# Altium footprint library Package_SO.PcbLib: 393 footprints (part 23 of 25)
Each footprint in its own frame and in the unit in brackets; x right, y up, seen from the top. Pads: shape width x height; smd on the part's side, far side on the other; paste and mask are expansions set on the pad; w line width, h text height; cw(c..) or ccw(c..) is an arc to the next point about the centre after c.
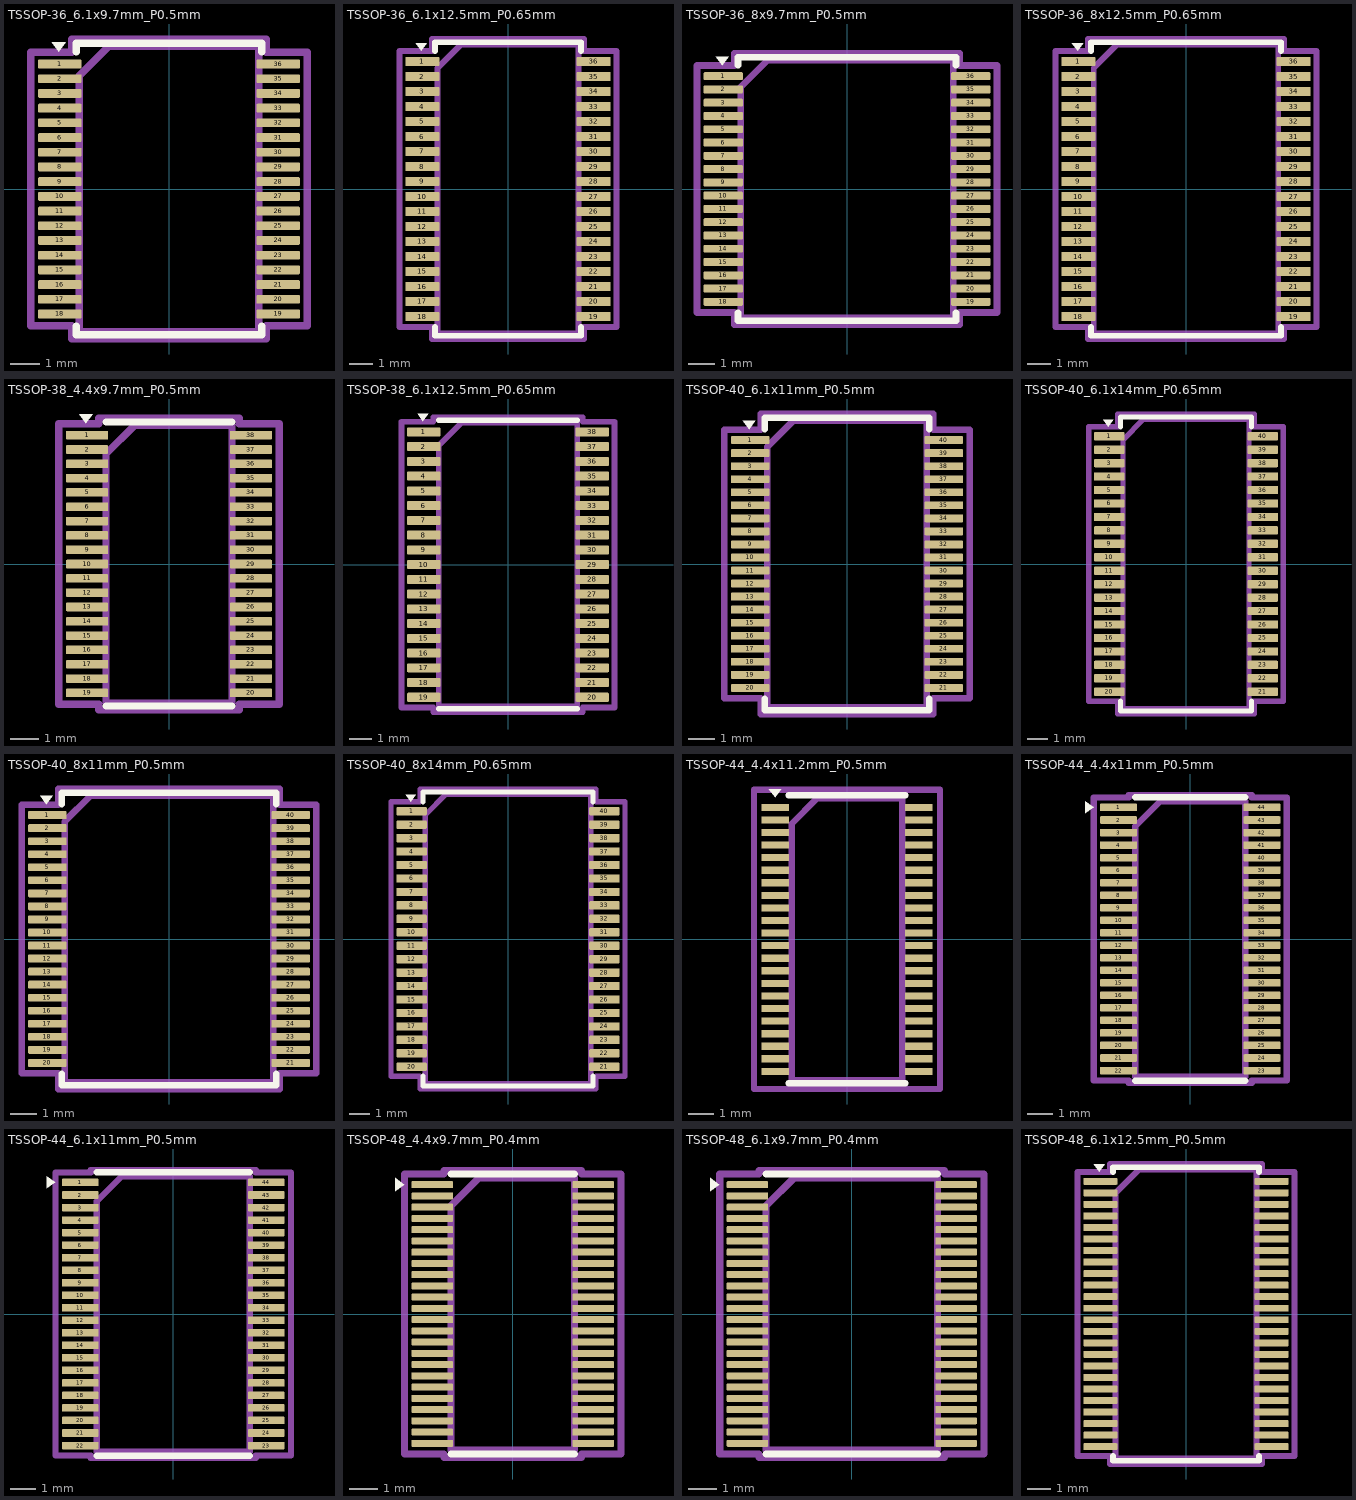
[diagram p22: the footprints below, top view; thin cyan lines are the x and y axes]

## TSSOP-36_6.1x9.7mm_P0.5mm [mm]
pads (36):
  rrect25% 1.475x0.3 smd: 1(-3.712,4.25) 2(-3.712,3.75) 3(-3.712,3.25) 4(-3.712,2.75) 5(-3.712,2.25) 6(-3.712,1.75) 7(-3.712,1.25) 8(-3.712,0.75) 9(-3.712,0.25) 10(-3.712,-0.25) 11(-3.712,-0.75) 12(-3.712,-1.25) 13(-3.712,-1.75) 14(-3.712,-2.25) 15(-3.712,-2.75) 16(-3.712,-3.25) 17(-3.712,-3.75) 18(-3.712,-4.25) 19(3.712,-4.25) 20(3.712,-3.75) 21(3.712,-3.25) 22(3.712,-2.75) 23(3.712,-2.25) 24(3.712,-1.75) 25(3.712,-1.25) 26(3.712,-0.75) 27(3.712,-0.25) 28(3.712,0.25) 29(3.712,0.75) 30(3.712,1.25) 31(3.712,1.75) 32(3.712,2.25) 33(3.712,2.75) 34(3.712,3.25) 35(3.712,3.75) 36(3.712,4.25)
F.SilkS:
  region: -3.75,4.66 -3.99,4.99 -3.51,4.99
  lines w0.254: -3.16,-4.66 -3.16,-4.96 0,-4.96 3.16,-4.96 3.16,-4.66 ; -3.16,4.66 -3.16,4.96 0,4.96 3.16,4.96 3.16,4.66
Top Assembly:
  lines w0.254: -3.05,-4.85 3.05,-4.85 3.05,4.85 -2.05,4.85 -3.05,3.85 -3.05,-4.85
  text "'.Designator'" at -4.047,-0.84 h1
Top Courtyard:
  lines w0.254: -4.7,-4.65 -3.3,-4.65 -3.3,-5.1 3.3,-5.1 3.3,-4.65 4.7,-4.65 4.7,4.65 3.3,4.65 3.3,5.1 -3.3,5.1 -3.3,4.65 -4.7,4.65 -4.7,-4.65
Top Designator:
  text ".Designator" at -7.618,-0.508 h1.52

## TSSOP-36_6.1x12.5mm_P0.65mm [mm]
pads (36):
  rrect25% 1.475x0.4 smd: 1(-3.712,5.525) 2(-3.712,4.875) 3(-3.712,4.225) 4(-3.712,3.575) 5(-3.712,2.925) 6(-3.712,2.275) 7(-3.712,1.625) 8(-3.712,0.975) 9(-3.712,0.325) 10(-3.712,-0.325) 11(-3.712,-0.975) 12(-3.712,-1.625) 13(-3.712,-2.275) 14(-3.712,-2.925) 15(-3.712,-3.575) 16(-3.712,-4.225) 17(-3.712,-4.875) 18(-3.712,-5.525) 19(3.712,-5.525) 20(3.712,-4.875) 21(3.712,-4.225) 22(3.712,-3.575) 23(3.712,-2.925) 24(3.712,-2.275) 25(3.712,-1.625) 26(3.712,-0.975) 27(3.712,-0.325) 28(3.712,0.325) 29(3.712,0.975) 30(3.712,1.625) 31(3.712,2.275) 32(3.712,2.925) 33(3.712,3.575) 34(3.712,4.225) 35(3.712,4.875) 36(3.712,5.525)
F.SilkS:
  region: -3.75,5.985 -3.99,6.315 -3.51,6.315
  lines w0.254: -3.16,-5.985 -3.16,-6.36 0,-6.36 3.16,-6.36 3.16,-5.985 ; -3.16,5.985 -3.16,6.36 0,6.36 3.16,6.36 3.16,5.985
Top Assembly:
  lines w0.254: -3.05,-6.25 3.05,-6.25 3.05,6.25 -2.05,6.25 -3.05,5.25 -3.05,-6.25
  text "'.Designator'" at -4.047,-0.84 h1
Top Courtyard:
  lines w0.254: -4.7,-5.98 -3.3,-5.98 -3.3,-6.5 3.3,-6.5 3.3,-5.98 4.7,-5.98 4.7,5.98 3.3,5.98 3.3,6.5 -3.3,6.5 -3.3,5.98 -4.7,5.98 -4.7,-5.98
Top Designator:
  text ".Designator" at -7.618,-0.508 h1.52

## TSSOP-36_8x9.7mm_P0.5mm [mm]
pads (36):
  rrect25% 1.475x0.3 smd: 1(-4.663,4.25) 2(-4.663,3.75) 3(-4.663,3.25) 4(-4.663,2.75) 5(-4.663,2.25) 6(-4.663,1.75) 7(-4.663,1.25) 8(-4.663,0.75) 9(-4.663,0.25) 10(-4.663,-0.25) 11(-4.663,-0.75) 12(-4.663,-1.25) 13(-4.663,-1.75) 14(-4.663,-2.25) 15(-4.663,-2.75) 16(-4.663,-3.25) 17(-4.663,-3.75) 18(-4.663,-4.25) 19(4.663,-4.25) 20(4.663,-3.75) 21(4.663,-3.25) 22(4.663,-2.75) 23(4.663,-2.25) 24(4.663,-1.75) 25(4.663,-1.25) 26(4.663,-0.75) 27(4.663,-0.25) 28(4.663,0.25) 29(4.663,0.75) 30(4.663,1.25) 31(4.663,1.75) 32(4.663,2.25) 33(4.663,2.75) 34(4.663,3.25) 35(4.663,3.75) 36(4.663,4.25)
F.SilkS:
  region: -4.7,4.66 -4.94,4.99 -4.46,4.99
  lines w0.254: -4.11,-4.66 -4.11,-4.96 0,-4.96 4.11,-4.96 4.11,-4.66 ; -4.11,4.66 -4.11,4.96 0,4.96 4.11,4.96 4.11,4.66
Top Assembly:
  lines w0.254: -4,-4.85 4,-4.85 4,4.85 -3,4.85 -4,3.85 -4,-4.85
  text "'.Designator'" at -4.047,-0.84 h1
Top Courtyard:
  lines w0.254: -5.65,-4.65 -4.25,-4.65 -4.25,-5.1 4.25,-5.1 4.25,-4.65 5.65,-4.65 5.65,4.65 4.25,4.65 4.25,5.1 -4.25,5.1 -4.25,4.65 -5.65,4.65 -5.65,-4.65
Top Designator:
  text ".Designator" at -7.618,-0.508 h1.52

## TSSOP-36_8x12.5mm_P0.65mm [mm]
pads (36):
  rrect25% 1.475x0.4 smd: 1(-4.663,5.525) 2(-4.663,4.875) 3(-4.663,4.225) 4(-4.663,3.575) 5(-4.663,2.925) 6(-4.663,2.275) 7(-4.663,1.625) 8(-4.663,0.975) 9(-4.663,0.325) 10(-4.663,-0.325) 11(-4.663,-0.975) 12(-4.663,-1.625) 13(-4.663,-2.275) 14(-4.663,-2.925) 15(-4.663,-3.575) 16(-4.663,-4.225) 17(-4.663,-4.875) 18(-4.663,-5.525) 19(4.663,-5.525) 20(4.663,-4.875) 21(4.663,-4.225) 22(4.663,-3.575) 23(4.663,-2.925) 24(4.663,-2.275) 25(4.663,-1.625) 26(4.663,-0.975) 27(4.663,-0.325) 28(4.663,0.325) 29(4.663,0.975) 30(4.663,1.625) 31(4.663,2.275) 32(4.663,2.925) 33(4.663,3.575) 34(4.663,4.225) 35(4.663,4.875) 36(4.663,5.525)
F.SilkS:
  region: -4.7,5.985 -4.94,6.315 -4.46,6.315
  lines w0.254: -4.11,-5.985 -4.11,-6.36 0,-6.36 4.11,-6.36 4.11,-5.985 ; -4.11,5.985 -4.11,6.36 0,6.36 4.11,6.36 4.11,5.985
Top Assembly:
  lines w0.254: -4,-6.25 4,-6.25 4,6.25 -3,6.25 -4,5.25 -4,-6.25
  text "'.Designator'" at -4.047,-0.84 h1
Top Courtyard:
  lines w0.254: -5.65,-5.98 -4.25,-5.98 -4.25,-6.5 4.25,-6.5 4.25,-5.98 5.65,-5.98 5.65,5.98 4.25,5.98 4.25,6.5 -4.25,6.5 -4.25,5.98 -5.65,5.98 -5.65,-5.98
Top Designator:
  text ".Designator" at -7.618,-0.508 h1.52

## TSSOP-38_4.4x9.7mm_P0.5mm [mm]
pads (38):
  rrect25% 1.475x0.3 smd: 1(-2.863,4.5) 2(-2.863,4) 3(-2.863,3.5) 4(-2.863,3) 5(-2.863,2.5) 6(-2.863,2) 7(-2.863,1.5) 8(-2.863,1) 9(-2.863,0.5) 10(-2.863,0) 11(-2.863,-0.5) 12(-2.863,-1) 13(-2.863,-1.5) 14(-2.863,-2) 15(-2.863,-2.5) 16(-2.863,-3) 17(-2.863,-3.5) 18(-2.863,-4) 19(-2.863,-4.5) 20(2.863,-4.5) 21(2.863,-4) 22(2.863,-3.5) 23(2.863,-3) 24(2.863,-2.5) 25(2.863,-2) 26(2.863,-1.5) 27(2.863,-1) 28(2.863,-0.5) 29(2.863,0) 30(2.863,0.5) 31(2.863,1) 32(2.863,1.5) 33(2.863,2) 34(2.863,2.5) 35(2.863,3) 36(2.863,3.5) 37(2.863,4) 38(2.863,4.5)
F.SilkS:
  region: -2.9,4.91 -3.14,5.24 -2.66,5.24
  lines w0.254: -2.2,-4.96 0,-4.96 2.2,-4.96 ; -2.2,4.96 0,4.96 2.2,4.96
Top Assembly:
  lines w0.254: -2.2,-4.85 2.2,-4.85 2.2,4.85 -1.2,4.85 -2.2,3.85 -2.2,-4.85
  text "'.Designator'" at -4.047,-0.84 h1
Top Courtyard:
  lines w0.254: -3.85,-4.9 -2.45,-4.9 -2.45,-5.1 2.45,-5.1 2.45,-4.9 3.85,-4.9 3.85,4.9 2.45,4.9 2.45,5.1 -2.45,5.1 -2.45,4.9 -3.85,4.9 -3.85,-4.9
Top Designator:
  text ".Designator" at -7.727,-0.501 h1.52

## TSSOP-38_6.1x12.5mm_P0.65mm [mm]
pads (38):
  rrect25% 1.475x0.4 smd: 1(-3.712,5.85) 2(-3.712,5.2) 3(-3.712,4.55) 4(-3.712,3.9) 5(-3.712,3.25) 6(-3.712,2.6) 7(-3.712,1.95) 8(-3.712,1.3) 9(-3.712,0.65) 10(-3.712,0) 11(-3.712,-0.65) 12(-3.712,-1.3) 13(-3.712,-1.95) 14(-3.712,-2.6) 15(-3.712,-3.25) 16(-3.712,-3.9) 17(-3.712,-4.55) 18(-3.712,-5.2) 19(-3.712,-5.85) 20(3.712,-5.85) 21(3.712,-5.2) 22(3.712,-4.55) 23(3.712,-3.9) 24(3.712,-3.25) 25(3.712,-2.6) 26(3.712,-1.95) 27(3.712,-1.3) 28(3.712,-0.65) 29(3.712,0) 30(3.712,0.65) 31(3.712,1.3) 32(3.712,1.95) 33(3.712,2.6) 34(3.712,3.25) 35(3.712,3.9) 36(3.712,4.55) 37(3.712,5.2) 38(3.712,5.85)
F.SilkS:
  region: -3.75,6.31 -3.99,6.64 -3.51,6.64
  lines w0.254: -3.05,-6.36 0,-6.36 3.05,-6.36 ; -3.05,6.36 0,6.36 3.05,6.36
Top Assembly:
  lines w0.254: -3.05,-6.25 3.05,-6.25 3.05,6.25 -2.05,6.25 -3.05,5.25 -3.05,-6.25
  text "'.Designator'" at -4.047,-0.84 h1
Top Courtyard:
  lines w0.254: -4.7,-6.3 -3.3,-6.3 -3.3,-6.5 3.3,-6.5 3.3,-6.3 4.7,-6.3 4.7,6.3 3.3,6.3 3.3,6.5 -3.3,6.5 -3.3,6.3 -4.7,6.3 -4.7,-6.3
Top Designator:
  text ".Designator" at -7.618,-0.501 h1.52

## TSSOP-40_6.1x11mm_P0.5mm [mm]
pads (40):
  rrect25% 1.475x0.3 smd: 1(-3.712,4.75) 2(-3.712,4.25) 3(-3.712,3.75) 4(-3.712,3.25) 5(-3.712,2.75) 6(-3.712,2.25) 7(-3.712,1.75) 8(-3.712,1.25) 9(-3.712,0.75) 10(-3.712,0.25) 11(-3.712,-0.25) 12(-3.712,-0.75) 13(-3.712,-1.25) 14(-3.712,-1.75) 15(-3.712,-2.25) 16(-3.712,-2.75) 17(-3.712,-3.25) 18(-3.712,-3.75) 19(-3.712,-4.25) 20(-3.712,-4.75) 21(3.712,-4.75) 22(3.712,-4.25) 23(3.712,-3.75) 24(3.712,-3.25) 25(3.712,-2.75) 26(3.712,-2.25) 27(3.712,-1.75) 28(3.712,-1.25) 29(3.712,-0.75) 30(3.712,-0.25) 31(3.712,0.25) 32(3.712,0.75) 33(3.712,1.25) 34(3.712,1.75) 35(3.712,2.25) 36(3.712,2.75) 37(3.712,3.25) 38(3.712,3.75) 39(3.712,4.25) 40(3.712,4.75)
F.SilkS:
  region: -3.75,5.16 -3.99,5.49 -3.51,5.49
  lines w0.254: -3.16,-5.16 -3.16,-5.61 0,-5.61 3.16,-5.61 3.16,-5.16 ; -3.16,5.16 -3.16,5.61 0,5.61 3.16,5.61 3.16,5.16
Top Assembly:
  lines w0.254: -3.05,-5.5 3.05,-5.5 3.05,5.5 -2.05,5.5 -3.05,4.5 -3.05,-5.5
  text "'.Designator'" at -4.047,-0.84 h1
Top Courtyard:
  lines w0.254: -4.7,-5.15 -3.3,-5.15 -3.3,-5.75 3.3,-5.75 3.3,-5.15 4.7,-5.15 4.7,5.15 3.3,5.15 3.3,5.75 -3.3,5.75 -3.3,5.15 -4.7,5.15 -4.7,-5.15
Top Designator:
  text ".Designator" at -7.618,-0.508 h1.52

## TSSOP-40_6.1x14mm_P0.65mm [mm]
pads (40):
  rrect25% 1.475x0.4 smd: 1(-3.712,6.175) 2(-3.712,5.525) 3(-3.712,4.875) 4(-3.712,4.225) 5(-3.712,3.575) 6(-3.712,2.925) 7(-3.712,2.275) 8(-3.712,1.625) 9(-3.712,0.975) 10(-3.712,0.325) 11(-3.712,-0.325) 12(-3.712,-0.975) 13(-3.712,-1.625) 14(-3.712,-2.275) 15(-3.712,-2.925) 16(-3.712,-3.575) 17(-3.712,-4.225) 18(-3.712,-4.875) 19(-3.712,-5.525) 20(-3.712,-6.175) 21(3.712,-6.175) 22(3.712,-5.525) 23(3.712,-4.875) 24(3.712,-4.225) 25(3.712,-3.575) 26(3.712,-2.925) 27(3.712,-2.275) 28(3.712,-1.625) 29(3.712,-0.975) 30(3.712,-0.325) 31(3.712,0.325) 32(3.712,0.975) 33(3.712,1.625) 34(3.712,2.275) 35(3.712,2.925) 36(3.712,3.575) 37(3.712,4.225) 38(3.712,4.875) 39(3.712,5.525) 40(3.712,6.175)
F.SilkS:
  region: -3.75,6.635 -3.99,6.965 -3.51,6.965
  lines w0.254: -3.16,-6.635 -3.16,-7.11 0,-7.11 3.16,-7.11 3.16,-6.635 ; -3.16,6.635 -3.16,7.11 0,7.11 3.16,7.11 3.16,6.635
Top Assembly:
  lines w0.254: -3.05,-7 3.05,-7 3.05,7 -2.05,7 -3.05,6 -3.05,-7
  text "'.Designator'" at -4.047,-0.84 h1
Top Courtyard:
  lines w0.254: -4.7,-6.63 -3.3,-6.63 -3.3,-7.25 3.3,-7.25 3.3,-6.63 4.7,-6.63 4.7,6.63 3.3,6.63 3.3,7.25 -3.3,7.25 -3.3,6.63 -4.7,6.63 -4.7,-6.63
Top Designator:
  text ".Designator" at -7.618,-0.508 h1.52

## TSSOP-40_8x11mm_P0.5mm [mm]
pads (40):
  rrect25% 1.475x0.3 smd: 1(-4.663,4.75) 2(-4.663,4.25) 3(-4.663,3.75) 4(-4.663,3.25) 5(-4.663,2.75) 6(-4.663,2.25) 7(-4.663,1.75) 8(-4.663,1.25) 9(-4.663,0.75) 10(-4.663,0.25) 11(-4.663,-0.25) 12(-4.663,-0.75) 13(-4.663,-1.25) 14(-4.663,-1.75) 15(-4.663,-2.25) 16(-4.663,-2.75) 17(-4.663,-3.25) 18(-4.663,-3.75) 19(-4.663,-4.25) 20(-4.663,-4.75) 21(4.663,-4.75) 22(4.663,-4.25) 23(4.663,-3.75) 24(4.663,-3.25) 25(4.663,-2.75) 26(4.663,-2.25) 27(4.663,-1.75) 28(4.663,-1.25) 29(4.663,-0.75) 30(4.663,-0.25) 31(4.663,0.25) 32(4.663,0.75) 33(4.663,1.25) 34(4.663,1.75) 35(4.663,2.25) 36(4.663,2.75) 37(4.663,3.25) 38(4.663,3.75) 39(4.663,4.25) 40(4.663,4.75)
F.SilkS:
  region: -4.7,5.16 -4.94,5.49 -4.46,5.49
  lines w0.254: -4.11,-5.16 -4.11,-5.61 0,-5.61 4.11,-5.61 4.11,-5.16 ; -4.11,5.16 -4.11,5.61 0,5.61 4.11,5.61 4.11,5.16
Top Assembly:
  lines w0.254: -4,-5.5 4,-5.5 4,5.5 -3,5.5 -4,4.5 -4,-5.5
  text "'.Designator'" at -4.047,-0.84 h1
Top Courtyard:
  lines w0.254: -5.65,-5.15 -4.25,-5.15 -4.25,-5.75 4.25,-5.75 4.25,-5.15 5.65,-5.15 5.65,5.15 4.25,5.15 4.25,5.75 -4.25,5.75 -4.25,5.15 -5.65,5.15 -5.65,-5.15
Top Designator:
  text ".Designator" at -7.618,-0.508 h1.52

## TSSOP-40_8x14mm_P0.65mm [mm]
pads (40):
  rrect25% 1.475x0.4 smd: 1(-4.663,6.175) 2(-4.663,5.525) 3(-4.663,4.875) 4(-4.663,4.225) 5(-4.663,3.575) 6(-4.663,2.925) 7(-4.663,2.275) 8(-4.663,1.625) 9(-4.663,0.975) 10(-4.663,0.325) 11(-4.663,-0.325) 12(-4.663,-0.975) 13(-4.663,-1.625) 14(-4.663,-2.275) 15(-4.663,-2.925) 16(-4.663,-3.575) 17(-4.663,-4.225) 18(-4.663,-4.875) 19(-4.663,-5.525) 20(-4.663,-6.175) 21(4.663,-6.175) 22(4.663,-5.525) 23(4.663,-4.875) 24(4.663,-4.225) 25(4.663,-3.575) 26(4.663,-2.925) 27(4.663,-2.275) 28(4.663,-1.625) 29(4.663,-0.975) 30(4.663,-0.325) 31(4.663,0.325) 32(4.663,0.975) 33(4.663,1.625) 34(4.663,2.275) 35(4.663,2.925) 36(4.663,3.575) 37(4.663,4.225) 38(4.663,4.875) 39(4.663,5.525) 40(4.663,6.175)
F.SilkS:
  region: -4.7,6.635 -4.94,6.965 -4.46,6.965
  lines w0.254: -4.11,-6.635 -4.11,-7.11 0,-7.11 4.11,-7.11 4.11,-6.635 ; -4.11,6.635 -4.11,7.11 0,7.11 4.11,7.11 4.11,6.635
Top Assembly:
  lines w0.254: -4,-7 4,-7 4,7 -3,7 -4,6 -4,-7
  text "'.Designator'" at -4.047,-0.84 h1
Top Courtyard:
  lines w0.254: -5.65,-6.63 -4.25,-6.63 -4.25,-7.25 4.25,-7.25 4.25,-6.63 5.65,-6.63 5.65,6.63 4.25,6.63 4.25,7.25 -4.25,7.25 -4.25,6.63 -5.65,6.63 -5.65,-6.63
Top Designator:
  text ".Designator" at -7.618,-0.508 h1.52

## TSSOP-44_4.4x11.2mm_P0.5mm [mm]
pads (44):
  rect 1.1x0.285 smd: 1(-2.85,5.25) 2(-2.85,4.75) 3(-2.85,4.25) 4(-2.85,3.75) 5(-2.85,3.25) 6(-2.85,2.75) 7(-2.85,2.25) 8(-2.85,1.75) 9(-2.85,1.25) 10(-2.85,0.75) 11(-2.85,0.25) 12(-2.85,-0.25) 13(-2.85,-0.75) 14(-2.85,-1.25) 15(-2.85,-1.75) 16(-2.85,-2.25) 17(-2.85,-2.75) 18(-2.85,-3.25) 19(-2.85,-3.75) 20(-2.85,-4.25) 21(-2.85,-4.75) 22(-2.85,-5.25) 23(2.85,-5.25) 24(2.85,-4.75) 25(2.85,-4.25) 26(2.85,-3.75) 27(2.85,-3.25) 28(2.85,-2.75) 29(2.85,-2.25) 30(2.85,-1.75) 31(2.85,-1.25) 32(2.85,-0.75) 33(2.85,-0.25) 34(2.85,0.25) 35(2.85,0.75) 36(2.85,1.25) 37(2.85,1.75) 38(2.85,2.25) 39(2.85,2.75) 40(2.85,3.25) 41(2.85,3.75) 42(2.85,4.25) 43(2.85,4.75) 44(2.85,5.25)
F.SilkS:
  region: -2.863,5.65 -3.103,5.98 -2.622,5.98
  lines w0.254: -2.325,-5.725 2.325,-5.725 ; -2.325,5.725 2.325,5.725
Top Assembly:
  lines w0.254: -2.2,-5.6 2.2,-5.6 2.2,5.6 -1.2,5.6 -2.2,4.6 -2.2,-5.6
  text "'.Designator'" at -3.267,-0.702 h0.8
Top Courtyard:
  lines w0.254: -3.7,-5.95 3.7,-5.95 3.7,5.95 -3.7,5.95 -3.7,-5.95
Top Designator:
  text ".Designator" at -7.618,-0.508 h1.52

## TSSOP-44_4.4x11mm_P0.5mm [mm]
pads (44):
  rrect25% 1.475x0.3 smd: 1(-2.863,5.25) 2(-2.863,4.75) 3(-2.863,4.25) 4(-2.863,3.75) 5(-2.863,3.25) 6(-2.863,2.75) 7(-2.863,2.25) 8(-2.863,1.75) 9(-2.863,1.25) 10(-2.863,0.75) 11(-2.863,0.25) 12(-2.863,-0.25) 13(-2.863,-0.75) 14(-2.863,-1.25) 15(-2.863,-1.75) 16(-2.863,-2.25) 17(-2.863,-2.75) 18(-2.863,-3.25) 19(-2.863,-3.75) 20(-2.863,-4.25) 21(-2.863,-4.75) 22(-2.863,-5.25) 23(2.863,-5.25) 24(2.863,-4.75) 25(2.863,-4.25) 26(2.863,-3.75) 27(2.863,-3.25) 28(2.863,-2.75) 29(2.863,-2.25) 30(2.863,-1.75) 31(2.863,-1.25) 32(2.863,-0.75) 33(2.863,-0.25) 34(2.863,0.25) 35(2.863,0.75) 36(2.863,1.25) 37(2.863,1.75) 38(2.863,2.25) 39(2.863,2.75) 40(2.863,3.25) 41(2.863,3.75) 42(2.863,4.25) 43(2.863,4.75) 44(2.863,5.25)
F.SilkS:
  region: -3.86,5.25 -4.19,5.01 -4.19,5.49
  lines w0.254: -2.2,-5.66 0,-5.66 2.2,-5.66 ; -2.2,5.66 0,5.66 2.2,5.66
Top Assembly:
  lines w0.254: -2.2,-5.5 2.2,-5.5 2.2,5.5 -1.2,5.5 -2.2,4.5 -2.2,-5.5
  text "'.Designator'" at -4.047,-0.84 h1
Top Courtyard:
  lines w0.254: -3.85,-5.65 -2.45,-5.65 -2.45,-5.75 2.45,-5.75 2.45,-5.65 3.85,-5.65 3.85,5.65 2.45,5.65 2.45,5.75 -2.45,5.75 -2.45,5.65 -3.85,5.65 -3.85,-5.65
Top Designator:
  text ".Designator" at -7.727,-0.508 h1.52

## TSSOP-44_6.1x11mm_P0.5mm [mm]
pads (44):
  rrect25% 1.475x0.3 smd: 1(-3.712,5.25) 2(-3.712,4.75) 3(-3.712,4.25) 4(-3.712,3.75) 5(-3.712,3.25) 6(-3.712,2.75) 7(-3.712,2.25) 8(-3.712,1.75) 9(-3.712,1.25) 10(-3.712,0.75) 11(-3.712,0.25) 12(-3.712,-0.25) 13(-3.712,-0.75) 14(-3.712,-1.25) 15(-3.712,-1.75) 16(-3.712,-2.25) 17(-3.712,-2.75) 18(-3.712,-3.25) 19(-3.712,-3.75) 20(-3.712,-4.25) 21(-3.712,-4.75) 22(-3.712,-5.25) 23(3.712,-5.25) 24(3.712,-4.75) 25(3.712,-4.25) 26(3.712,-3.75) 27(3.712,-3.25) 28(3.712,-2.75) 29(3.712,-2.25) 30(3.712,-1.75) 31(3.712,-1.25) 32(3.712,-0.75) 33(3.712,-0.25) 34(3.712,0.25) 35(3.712,0.75) 36(3.712,1.25) 37(3.712,1.75) 38(3.712,2.25) 39(3.712,2.75) 40(3.712,3.25) 41(3.712,3.75) 42(3.712,4.25) 43(3.712,4.75) 44(3.712,5.25)
F.SilkS:
  region: -4.71,5.25 -5.04,5.01 -5.04,5.49
  lines w0.254: -3.05,-5.66 0,-5.66 3.05,-5.66 ; -3.05,5.66 0,5.66 3.05,5.66
Top Assembly:
  lines w0.254: -3.05,-5.5 3.05,-5.5 3.05,5.5 -2.05,5.5 -3.05,4.5 -3.05,-5.5
  text "'.Designator'" at -4.047,-0.84 h1
Top Courtyard:
  lines w0.254: -4.7,-5.65 -3.3,-5.65 -3.3,-5.75 3.3,-5.75 3.3,-5.65 4.7,-5.65 4.7,5.65 3.3,5.65 3.3,5.75 -3.3,5.75 -3.3,5.65 -4.7,5.65 -4.7,-5.65
Top Designator:
  text ".Designator" at -7.724,-0.508 h1.52

## TSSOP-48_4.4x9.7mm_P0.4mm [mm]
pads (48):
  rrect25% 1.475x0.25 smd: 1(-2.863,4.6) 2(-2.863,4.2) 3(-2.863,3.8) 4(-2.863,3.4) 5(-2.863,3) 6(-2.863,2.6) 7(-2.863,2.2) 8(-2.863,1.8) 9(-2.863,1.4) 10(-2.863,1) 11(-2.863,0.6) 12(-2.863,0.2) 13(-2.863,-0.2) 14(-2.863,-0.6) 15(-2.863,-1) 16(-2.863,-1.4) 17(-2.863,-1.8) 18(-2.863,-2.2) 19(-2.863,-2.6) 20(-2.863,-3) 21(-2.863,-3.4) 22(-2.863,-3.8) 23(-2.863,-4.2) 24(-2.863,-4.6) 25(2.863,-4.6) 26(2.863,-4.2) 27(2.863,-3.8) 28(2.863,-3.4) 29(2.863,-3) 30(2.863,-2.6) 31(2.863,-2.2) 32(2.863,-1.8) 33(2.863,-1.4) 34(2.863,-1) 35(2.863,-0.6) 36(2.863,-0.2) 37(2.863,0.2) 38(2.863,0.6) 39(2.863,1) 40(2.863,1.4) 41(2.863,1.8) 42(2.863,2.2) 43(2.863,2.6) 44(2.863,3) 45(2.863,3.4) 46(2.863,3.8) 47(2.863,4.2) 48(2.863,4.6)
F.SilkS:
  region: -3.86,4.6 -4.19,4.36 -4.19,4.84
  lines w0.254: -2.2,-4.985 0,-4.985 2.2,-4.985 ; -2.2,4.985 0,4.985 2.2,4.985
Top Assembly:
  lines w0.254: -2.2,-4.85 2.2,-4.85 2.2,4.85 -1.2,4.85 -2.2,3.85 -2.2,-4.85
  text "'.Designator'" at -4.047,-0.84 h1
Top Courtyard:
  lines w0.254: -3.85,-4.98 -2.45,-4.98 -2.45,-5.1 2.45,-5.1 2.45,-4.98 3.85,-4.98 3.85,4.98 2.45,4.98 2.45,5.1 -2.45,5.1 -2.45,4.98 -3.85,4.98 -3.85,-4.98
Top Designator:
  text ".Designator" at -7.727,-0.508 h1.52

## TSSOP-48_6.1x9.7mm_P0.4mm [mm]
pads (48):
  rrect25% 1.475x0.25 smd: 1(-3.712,4.6) 2(-3.712,4.2) 3(-3.712,3.8) 4(-3.712,3.4) 5(-3.712,3) 6(-3.712,2.6) 7(-3.712,2.2) 8(-3.712,1.8) 9(-3.712,1.4) 10(-3.712,1) 11(-3.712,0.6) 12(-3.712,0.2) 13(-3.712,-0.2) 14(-3.712,-0.6) 15(-3.712,-1) 16(-3.712,-1.4) 17(-3.712,-1.8) 18(-3.712,-2.2) 19(-3.712,-2.6) 20(-3.712,-3) 21(-3.712,-3.4) 22(-3.712,-3.8) 23(-3.712,-4.2) 24(-3.712,-4.6) 25(3.712,-4.6) 26(3.712,-4.2) 27(3.712,-3.8) 28(3.712,-3.4) 29(3.712,-3) 30(3.712,-2.6) 31(3.712,-2.2) 32(3.712,-1.8) 33(3.712,-1.4) 34(3.712,-1) 35(3.712,-0.6) 36(3.712,-0.2) 37(3.712,0.2) 38(3.712,0.6) 39(3.712,1) 40(3.712,1.4) 41(3.712,1.8) 42(3.712,2.2) 43(3.712,2.6) 44(3.712,3) 45(3.712,3.4) 46(3.712,3.8) 47(3.712,4.2) 48(3.712,4.6)
F.SilkS:
  region: -4.71,4.6 -5.04,4.36 -5.04,4.84
  lines w0.254: -3.05,-4.985 0,-4.985 3.05,-4.985 ; -3.05,4.985 0,4.985 3.05,4.985
Top Assembly:
  lines w0.254: -3.05,-4.85 3.05,-4.85 3.05,4.85 -2.05,4.85 -3.05,3.85 -3.05,-4.85
  text "'.Designator'" at -4.047,-0.84 h1
Top Courtyard:
  lines w0.254: -4.7,-4.98 -3.3,-4.98 -3.3,-5.1 3.3,-5.1 3.3,-4.98 4.7,-4.98 4.7,4.98 3.3,4.98 3.3,5.1 -3.3,5.1 -3.3,4.98 -4.7,4.98 -4.7,-4.98
Top Designator:
  text ".Designator" at -7.724,-0.508 h1.52

## TSSOP-48_6.1x12.5mm_P0.5mm [mm]
pads (48):
  rrect25% 1.475x0.3 smd: 1(-3.712,5.75) 2(-3.712,5.25) 3(-3.712,4.75) 4(-3.712,4.25) 5(-3.712,3.75) 6(-3.712,3.25) 7(-3.712,2.75) 8(-3.712,2.25) 9(-3.712,1.75) 10(-3.712,1.25) 11(-3.712,0.75) 12(-3.712,0.25) 13(-3.712,-0.25) 14(-3.712,-0.75) 15(-3.712,-1.25) 16(-3.712,-1.75) 17(-3.712,-2.25) 18(-3.712,-2.75) 19(-3.712,-3.25) 20(-3.712,-3.75) 21(-3.712,-4.25) 22(-3.712,-4.75) 23(-3.712,-5.25) 24(-3.712,-5.75) 25(3.712,-5.75) 26(3.712,-5.25) 27(3.712,-4.75) 28(3.712,-4.25) 29(3.712,-3.75) 30(3.712,-3.25) 31(3.712,-2.75) 32(3.712,-2.25) 33(3.712,-1.75) 34(3.712,-1.25) 35(3.712,-0.75) 36(3.712,-0.25) 37(3.712,0.25) 38(3.712,0.75) 39(3.712,1.25) 40(3.712,1.75) 41(3.712,2.25) 42(3.712,2.75) 43(3.712,3.25) 44(3.712,3.75) 45(3.712,4.25) 46(3.712,4.75) 47(3.712,5.25) 48(3.712,5.75)
F.SilkS:
  region: -3.75,6.16 -3.99,6.49 -3.51,6.49
  lines w0.254: -3.16,-6.16 -3.16,-6.36 0,-6.36 3.16,-6.36 3.16,-6.16 ; -3.16,6.16 -3.16,6.36 0,6.36 3.16,6.36 3.16,6.16
Top Assembly:
  lines w0.254: -3.05,-6.25 3.05,-6.25 3.05,6.25 -2.05,6.25 -3.05,5.25 -3.05,-6.25
  text "'.Designator'" at -4.047,-0.84 h1
Top Courtyard:
  lines w0.254: -4.7,-6.15 -3.3,-6.15 -3.3,-6.5 3.3,-6.5 3.3,-6.15 4.7,-6.15 4.7,6.15 3.3,6.15 3.3,6.5 -3.3,6.5 -3.3,6.15 -4.7,6.15 -4.7,-6.15
Top Designator:
  text ".Designator" at -7.618,-0.508 h1.52